# EAGLE library part 233-508/000-003 (library con-wago_233)
Stand: 01.01.2014. Die jeweils aktuellen Daten zu diesem Artikel finden Sie in unserem Produktkatalog, den Sie unter www.wago.com einsehen können. As of: 01/01/2014. Please find the newest data for this article in our product catalogue, which can be viewed under www.wago.com.
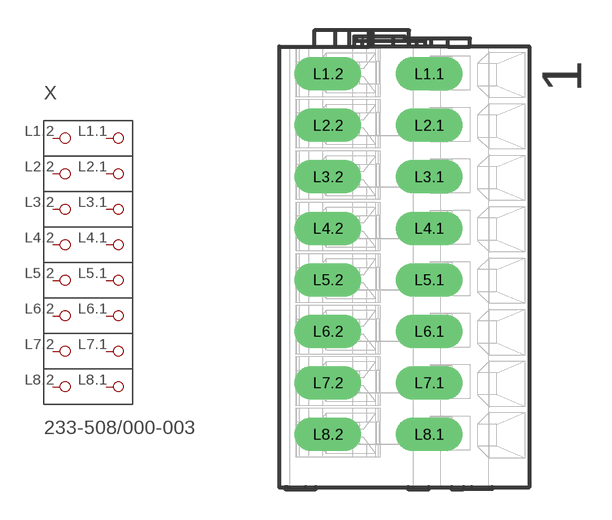
[diagram p170: symbol with the pads of P-233-508; footprint P-233-508]

Designator prefix X

## 233-508/000-003  [P-233-508]
L1.1  P1.1
L1.2  P1.2
L2.1  P2.1
L2.2  P2.2
L3.1  P3.1
L3.2  P3.2
L4.1  P4.1
L4.2  P4.2
L5.1  P5.1
L5.2  P5.2
L6.1  P6.1
L6.2  P6.2
L7.1  P7.1
L7.2  P7.2
L8.1  P8.1
L8.2  P8.2

## Footprint P-233-508 (pad centres in mm)
drill 1.1 long: L1.1 1.238,9.17; L1.2 -3.762,9.17; L2.1 1.238,6.63; L2.2 -3.762,6.63; L3.1 1.238,4.09; L3.2 -3.762,4.09; L4.1 1.238,1.55; L4.2 -3.762,1.55; L5.1 1.238,-0.99; L5.2 -3.762,-0.99; L6.1 1.238,-3.53; L6.2 -3.762,-3.53; L7.1 1.238,-6.07; L7.2 -3.762,-6.07; L8.1 1.238,-8.61; L8.2 -3.762,-8.61